# EAGLE library part STECKVERBINDER_5-POL (library e-steckverbinder)
Steckdose und Stecker, 5-pol.
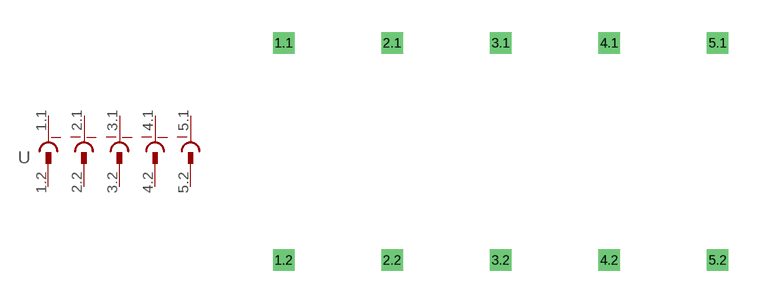
[diagram p2: symbol with the pads of STECKVERBINDER_5-POL; footprint STECKVERBINDER_5-POL]

Designator prefix -

## STECKVERBINDER_5-POL  [STECKVERBINDER_5-POL]
1.1  1.1  pas
1.2  1.2  pas
2.1  2.1  pas
2.2  2.2  pas
3.1  3.1  pas
3.2  3.2  pas
4.1  4.1  pas
4.2  4.2  pas
5.1  5.1  pas
5.2  5.2  pas

## Footprint STECKVERBINDER_5-POL (pad centres in mm)
Dummy
drill 0.5 pad 1 square: 1.1 -10.16,-2.54; 1.2 -10.16,-12.7; 2.1 -5.08,-2.54; 2.2 -5.08,-12.7; 3.1 0,-2.54; 3.2 0,-12.7; 4.1 5.08,-2.54; 4.2 5.08,-12.7; 5.1 10.16,-2.54; 5.2 10.16,-12.7